# EAGLE library part ATSAMD11D14A-MUT (library ATSAMD11D14A-MUT)
ARM Microcontrollers - MCU IC MCU 32 BIT 16KB Flash 24QFN Source: Datasheet <https://datasheet.datasheetarchive.com/originals/distributors/DKDS41/DSANUWW0026705.pdf>
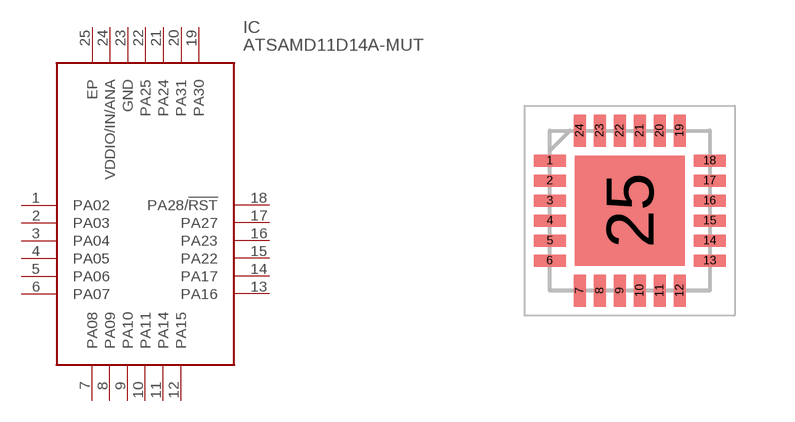
[diagram p0: symbol with the pads of QFN50P400X400X90-25N; footprint QFN50P400X400X90-25N]

Designator prefix IC

## ATSAMD11D14A-MUT (Description: ARM Microcontrollers - MCU IC MCU 32 BIT 16KB Flash 24QFN; Height: 0.9mm; Manufacturer_Name: Microchip; Manufacturer_Part_Number: ATSAMD11D14A-MUT; Mouser_Part_Number: 556-ATSAMD11D14A-MUT; Mouser_Price-Stock: https://www.mouser.co.uk/ProductDetail/Microchip-Technology/ATSAMD11D14A-MUT?qs=lrqjml%252Bjt8etvB16%252BhIl7Q%3D%3D)  [QFN50P400X400X90-25N]
1  PA02
2  PA03
3  PA04
4  PA05
5  PA06
6  PA07
7  PA08
8  PA09
9  PA10
10  PA11
11  PA14
12  PA15
13  PA16
14  PA17
15  PA22
16  PA23
17  PA27
18  PA28/!RST
19  PA30
20  PA31
21  PA24
22  PA25
23  GND
24  VDDIO/IN/ANA
25  EP

## Footprint QFN50P400X400X90-25N (pad centres in mm)
24-Pin VQFN
smd 0.8 x 0.3: 1 -2,1.25; 2 -2,0.75; 3 -2,0.25; 4 -2,-0.25; 5 -2,-0.75; 6 -2,-1.25; 13 2,-1.25; 14 2,-0.75; 15 2,-0.25; 16 2,0.25; 17 2,0.75; 18 2,1.25
smd 0.3 x 0.8: 7 -1.25,-2; 8 -0.75,-2; 9 -0.25,-2; 10 0.25,-2; 11 0.75,-2; 12 1.25,-2; 19 1.25,2; 20 0.75,2; 21 0.25,2; 22 -0.25,2; 23 -0.75,2; 24 -1.25,2
smd 2.75 x 2.75: 25 0,0